# Altium footprint library BEADC_0201_M0603.PcbLib: 1 footprints
Each footprint in its own frame and in the unit in brackets; x right, y up, seen from the top. Pads: shape width x height; smd on the part's side, far side on the other; paste and mask are expansions set on the pad; w line width, h text height; cw(c..) or ccw(c..) is an arc to the next point about the centre after c.
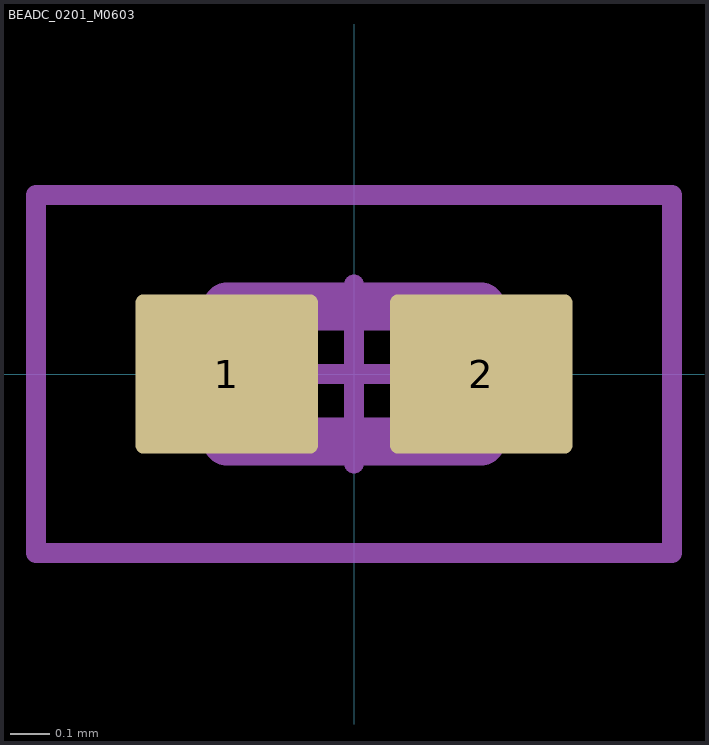
[diagram p0: the footprint, top view; thin cyan lines are the x and y axes]

## BEADC_0201_M0603 [mm] "Ferrite Bead, Chip; 0.60 mm L X 0.30 mm W X 0.33 mm H body"
pads (2):
  rrect10% 0.46x0.4 smd: 1(-0.32,0) 2(0.32,0)
Mechanical 11:
  lines w0.12: -0.32,-0.17 0.32,-0.17 0.32,0.17 -0.32,0.17 -0.32,-0.17
Mechanical 15:
  circle w0.05: c0,0 r0.169
  lines w0.05: -0.225,0 0.225,0 ; 0,-0.225 0,0.225 ; -0.8,-0.45 0.8,-0.45 0.8,0.45 -0.8,0.45 -0.8,-0.45
3D body "BEADC_0201_M0603.STEP": height 0.33, standoff 0, extent -0.315,-0.165 0.315,0.165